# Altium footprint library RESISTOR_2010.PcbLib: 1 footprints
Each footprint in its own frame and in the unit in brackets; x right, y up, seen from the top. Pads: shape width x height; smd on the part's side, far side on the other; paste and mask are expansions set on the pad; w line width, h text height; cw(c..) or ccw(c..) is an arc to the next point about the centre after c.
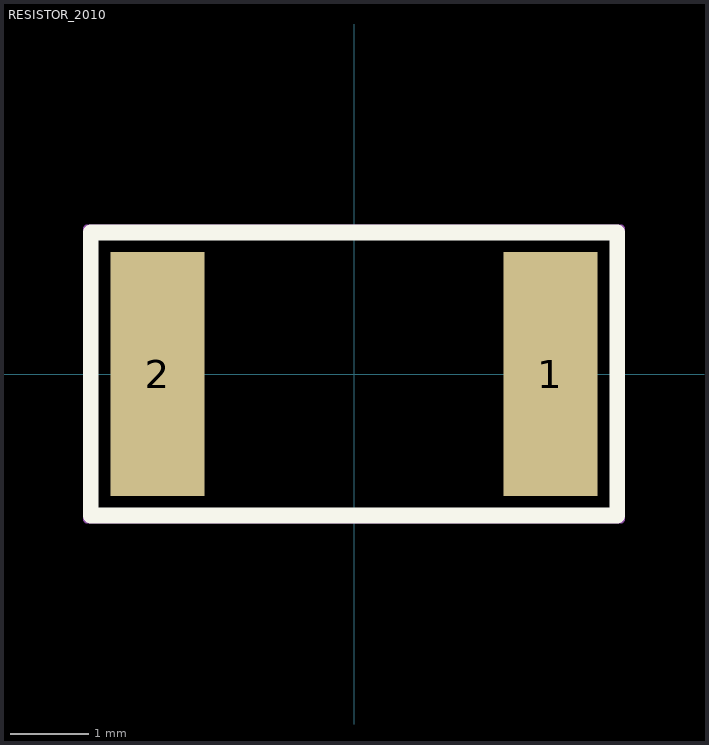
[diagram p0: the footprint, top view; thin cyan lines are the x and y axes]

## RESISTOR_2010 [mm]
pads (2):
  rect 1.2x3.1 smd: 1(2.5,0) 2(-2.5,0)
Top Overlay:
  lines w0.2: -3.35,-1.8 -3.35,1.8 3.35,1.8 3.35,-1.8 -3.35,-1.8
Top Courtyard:
  lines w0.1: -3.4,-1.85 -3.4,1.85 3.4,1.85 3.4,-1.85 -3.4,-1.85
3D body "WSLT2010R0250FEB18.STEP": height 0.89, standoff 0, extent -2.54,-1.27 2.54,1.27